# EAGLE library part ATTINY85-20SU (library Smile_Shade)
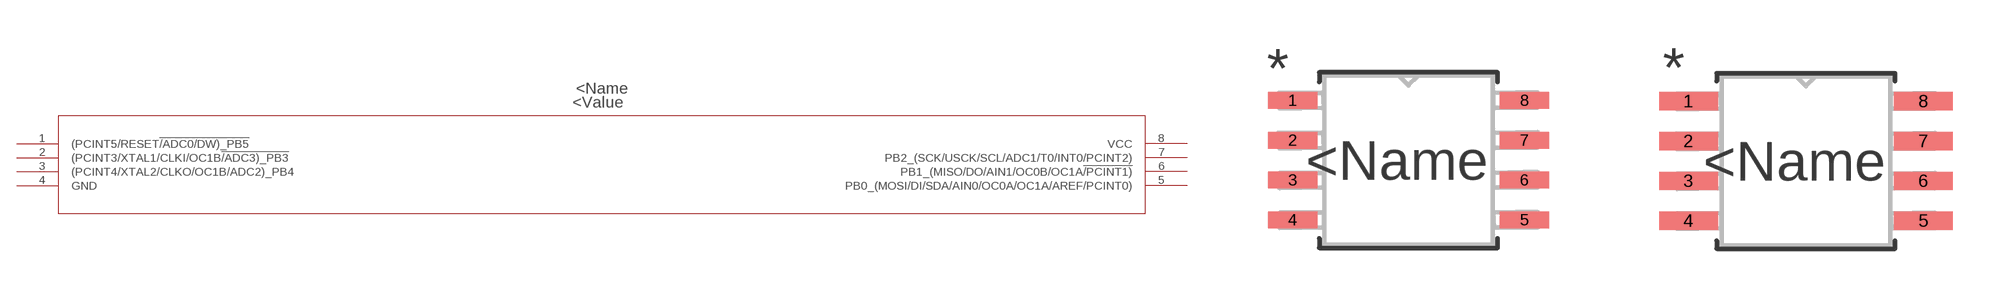
[diagram p11: symbol with the pads of 8S2; footprints 8S2, 8S2-M]

Designator prefix U

## ATTINY85-20SU (MANUFACTURER_PART_NUMBER: ATTINY8520SU; VENDOR: Atmel)  [8S2]
1  (PCINT5/RESET!/ADC0/DW)_PB5
2  (PCINT3/XTAL1/CLKI/OC1B!/ADC3)_PB3
3  (PCINT4/XTAL2/CLKO/OC1B/ADC2)_PB4
4  GND  pwr
5  PB0_(MOSI/DI/SDA/AIN0/OC0A/OC1A/AREF/PCINT0)
6  PB1_(MISO/DO/AIN1/OC0B/OC1A!/PCINT1)
7  PB2_(SCK/USCK/SCL/ADC1/T0/INT0/PCINT2)
8  VCC  pwr

## ATTINY85-20SU8S2-M (MANUFACTURER_PART_NUMBER: ATTINY8520SU; VENDOR: Atmel)  [8S2-M]
Pads as for 8S2

## ATTINY85-20SU8S2-L (MANUFACTURER_PART_NUMBER: ATTINY8520SU; VENDOR: Atmel)  [8S2-L]
Pads as for 8S2

## Footprint 8S2 (pad centres in mm)
smd 1.575 x 0.533: 1 -3.696,1.905; 2 -3.696,0.635; 3 -3.696,-0.635; 4 -3.696,-1.905; 5 3.696,-1.905; 6 3.696,-0.635; 7 3.696,0.635; 8 3.696,1.905

## Footprint 8S2-M (pad centres in mm)
smd 1.88 x 0.584: 1 -3.747,1.905; 2 -3.747,0.635; 3 -3.747,-0.635; 4 -3.747,-1.905; 5 3.747,-1.905; 6 3.747,-0.635; 7 3.747,0.635; 8 3.747,1.905

## Footprint 8S2-L (pad centres in mm)
smd 1.27 x 0.483: 1 -3.645,1.905; 2 -3.645,0.635; 3 -3.645,-0.635; 4 -3.645,-1.905; 5 3.645,-1.905; 6 3.645,-0.635; 7 3.645,0.635; 8 3.645,1.905